# Altium footprint library PCB - CONNECTOR - CUI - CUI PJ-014DH-SMT.PCBLIB: 1 footprints
Each footprint in its own frame and in the unit in brackets; x right, y up, seen from the top. Pads: shape width x height; smd on the part's side, far side on the other; paste and mask are expansions set on the pad; w line width, h text height; cw(c..) or ccw(c..) is an arc to the next point about the centre after c.
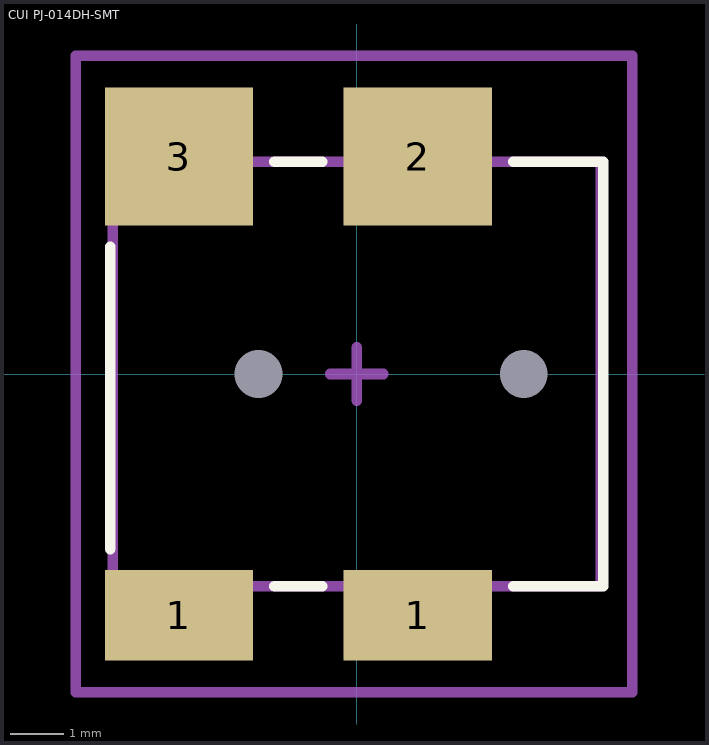
[diagram p0: the footprint, top view; thin cyan lines are the x and y axes]

## CUI PJ-014DH-SMT [mm]
height 5.7
pads (6):
  rect 2.8x1.7 smd: 1(-3.35,-4.55) 1(1.15,-4.55)
  rect 2.8x2.6 smd: 2(1.15,4.1) 3(-3.35,4.1)
  round 0 hole 0.9 unplated: M(-1.85,0) M(3.15,0)
Top Overlay:
  lines w0.2: -4.65,-3.3 -4.65,2.4 ; -1.55,-4 -0.65,-4 ; -1.55,4 -0.65,4 ; 2.95,-4 4.65,-4 4.65,4 2.95,4
Mechanical 1:
  lines w0.2: -4.6,-4 -4.6,4 4.6,4 4.6,-4 -4.6,-4
Mechanical 15:
  lines w0.2: -0.5,0 0.5,0 ; 0,-0.5 0,0.5 ; -5.3,-6 5.2,-6 5.2,6 -5.3,6 -5.3,-6
3D body "CUI PJ-014DH-SMT.STEP": height 5.4, standoff -0.6, extent -4.65,-4.8 4.65,4.8